# EAGLE library part ADM692 (library vekker)
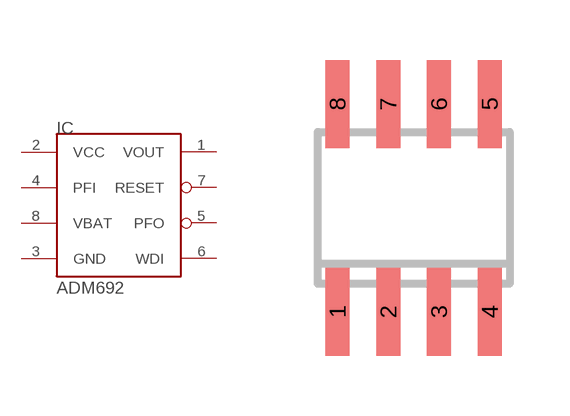
[diagram p4: symbol with the pads of SO08; footprint SO08]

Designator prefix IC

## ADM692  [SO08]
1  VOUT
2  VCC
3  GND
4  PFI
5  PFO
6  WDI
7  RESET
8  VBAT

## Footprint SO08 (pad centres in mm)
smd 0.6 x 2.2: 1 -1.905,-2.6; 2 -0.635,-2.6; 3 0.635,-2.6; 4 1.905,-2.6; 5 1.905,2.6; 6 0.635,2.6; 7 -0.635,2.6; 8 -1.905,2.6